# EAGLE library part 8PIN-P (library 8PIN)
8 Pin Socket for Head of Shield2Go Boards
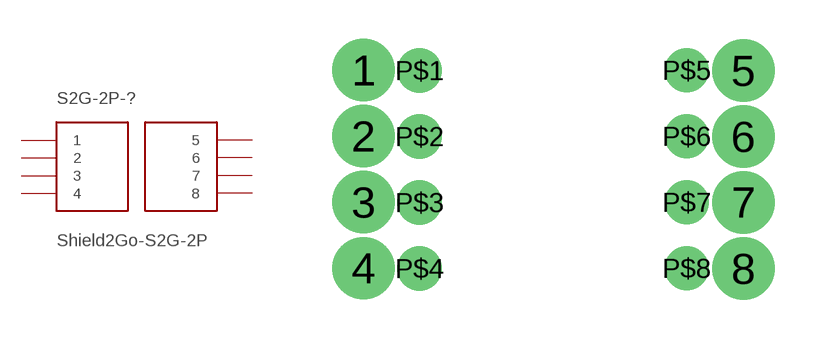
[diagram p1: symbol with the pads of 8PIN; footprint 8PIN]

Designator prefix -

## 8PIN-PP  [8PIN]
1  1
2  2
3  3
4  4
5  5
6  6
7  7
8  8
P$1  1
P$2  2
P$3  3
P$4  4
P$5  5
P$6  6
P$7  7
P$8  8

## Footprint 8PIN (pad centres in mm)
drill 1.6 pad 1.7: 1 -0.35,8.43; 2 -0.35,5.89; 3 -0.35,3.35; 4 -0.35,0.81; 5 14.26,8.42; 6 14.26,5.88; 7 14.26,3.34; 8 14.26,0.8
drill 1.1 pad 1.7: P$1 1.8,8.42; P$2 1.8,5.88; P$3 1.8,3.34; P$4 1.8,0.8; P$5 12.08,8.43; P$6 12.08,5.89; P$7 12.08,3.35; P$8 12.08,0.81